# Altium schematic symbol library Open-Wearable.SchLib: 2 symbols
Pins are listed as number, name and electrical type; pins without a type are passive.

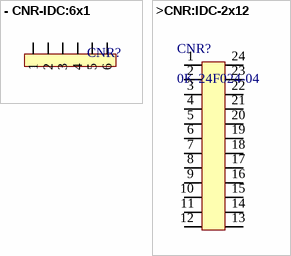
[diagram p0: symbols - CNR-IDC:6x1 to >CNR:IDC-2x12]

## - CNR-IDC:6x1
designator CNR?
Cmmt: -
footprint SIP06-2.54P (Single In-line Package; Pin Type; 6 Leads; Pitch: 2.54mm; Normally Used As Jumper Header)
pins: 1, 2, 3, 4, 5, 6

## >CNR:IDC-2x12
designator CNR?, comment 0K-24F024-04
24 Pins 0.4mm Pitch ZIF Connector
footprint 0K-24F024-04 (24 Pins 0.4mm Pitch ZIF Connector)
pins: 1, 2, 3, 4, 5, 6, 7, 8, 9, 10, 11, 12, 13, 14, 15, 16, 17, 18, 19, 20, 21, 22, 23, 24